# EAGLE library part DRV8874 (library SE423EagleLibrary)
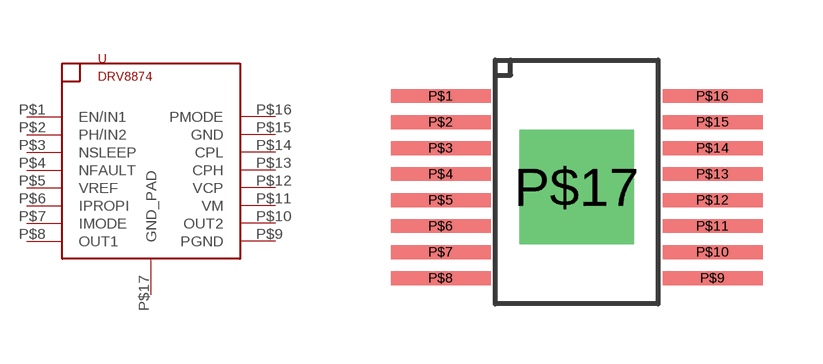
[diagram p10: symbol with the pads of HTSSOP16; footprint HTSSOP16]

Designator prefix U

## DRV8874  [HTSSOP16]
P$1  EN/IN1
P$2  PH/IN2
P$3  NSLEEP
P$4  NFAULT
P$5  VREF
P$6  IPROPI
P$7  IMODE
P$8  OUT1
P$9  PGND
P$10  OUT2
P$11  VM
P$12  VCP
P$13  CPH
P$14  CPL
P$15  GND
P$16  PMODE
P$17  GND_PAD

## Footprint HTSSOP16 (pad centres in mm)
smd 2.5 x 0.35: P$1 -3.4,2.275; P$2 -3.4,1.625; P$3 -3.4,0.975; P$4 -3.4,0.325; P$5 -3.4,-0.325; P$6 -3.4,-0.975; P$7 -3.4,-1.625; P$8 -3.4,-2.275; P$9 3.4,-2.275; P$10 3.4,-1.625; P$11 3.4,-0.975; P$12 3.4,-0.325; P$13 3.4,0.325; P$14 3.4,0.975; P$15 3.4,1.625; P$16 3.4,2.275
drill 1.905 pad 2.54 square: P$17 0,0